# Altium schematic symbol library 51Devices.SchLib: 3 symbols
Pins are listed as number, name and electrical type; pins without a type are passive.

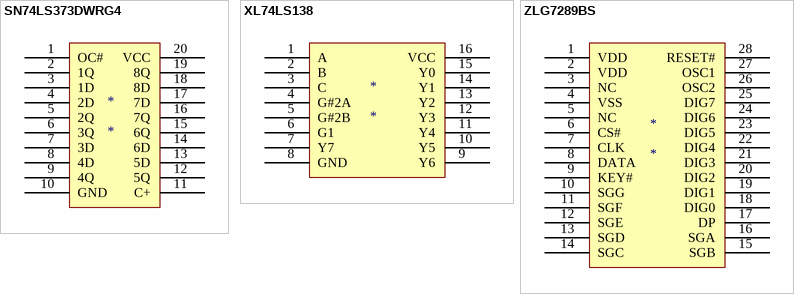
[diagram p0: symbols SN74LS373DWRG4 to ZLG7289BS]

## SN74LS373DWRG4
designator *
pins: 1 OC#, 2 1Q, 3 1D, 4 2D, 5 2Q, 6 3Q, 7 3D, 8 4D, 9 4Q, 10 GND, 11 C+, 12 5Q, 13 5D, 14 6D, 15 6Q, 16 7Q, 17 7D, 18 8D, 19 8Q, 20 VCC

## XL74LS138
designator *
pins: 1 A, 2 B, 3 C, 4 G#2A, 5 G#2B, 6 G1, 7 Y7, 8 GND, 9 Y6, 10 Y5, 11 Y4, 12 Y3, 13 Y2, 14 Y1, 15 Y0, 16 VCC

## ZLG7289BS
designator *
pins: 1 VDD, 2 VDD, 3 NC, 4 VSS, 5 NC, 6 CS#, 7 CLK, 8 DATA, 9 KEY#, 10 SGG, 11 SGF, 12 SGE, 13 SGD, 14 SGC, 15 SGB, 16 SGA, 17 DP, 18 DIG0, 19 DIG1, 20 DIG2, 21 DIG3, 22 DIG4, 23 DIG5, 24 DIG6, 25 DIG7, 26 OSC2, 27 OSC1, 28 RESET#